# Altium footprint library CPG-07-TH-B-Pin.PcbLib: 1 footprints
Each footprint in its own frame and in the unit in brackets; x right, y up, seen from the top. Pads: shape width x height; smd on the part's side, far side on the other; paste and mask are expansions set on the pad; w line width, h text height; cw(c..) or ccw(c..) is an arc to the next point about the centre after c.
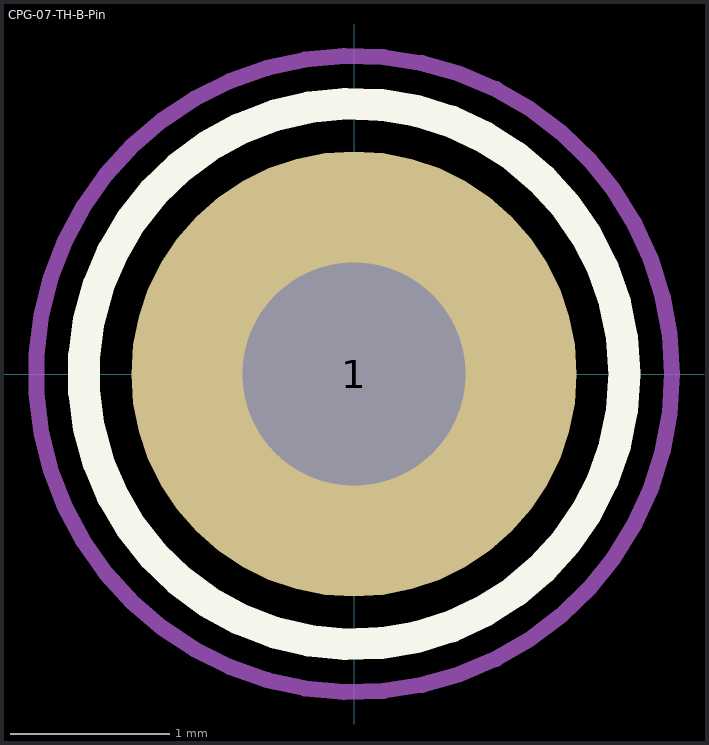
[diagram p0: the footprint, top view; thin cyan lines are the x and y axes]

## CPG-07-TH-B-Pin [mm]
pads (1):
  round 2.8 hole 1.4: 1(0,0)
Top Overlay:
  circle w0.2: c0,0 r1.7
Top Courtyard:
  circle w0.1: c0,0 r2
3D body "Same_Sky_CPG-07-TH-B.step": height 7.05, standoff -0.45, extent -0.985,-1 1,1